# Altium footprint library XSUB_COMP.PcbLib: 8 footprints
Each footprint in its own frame and in the unit in brackets; x right, y up, seen from the top. Pads: shape width x height; smd on the part's side, far side on the other; paste and mask are expansions set on the pad; w line width, h text height; cw(c..) or ccw(c..) is an arc to the next point about the centre after c.
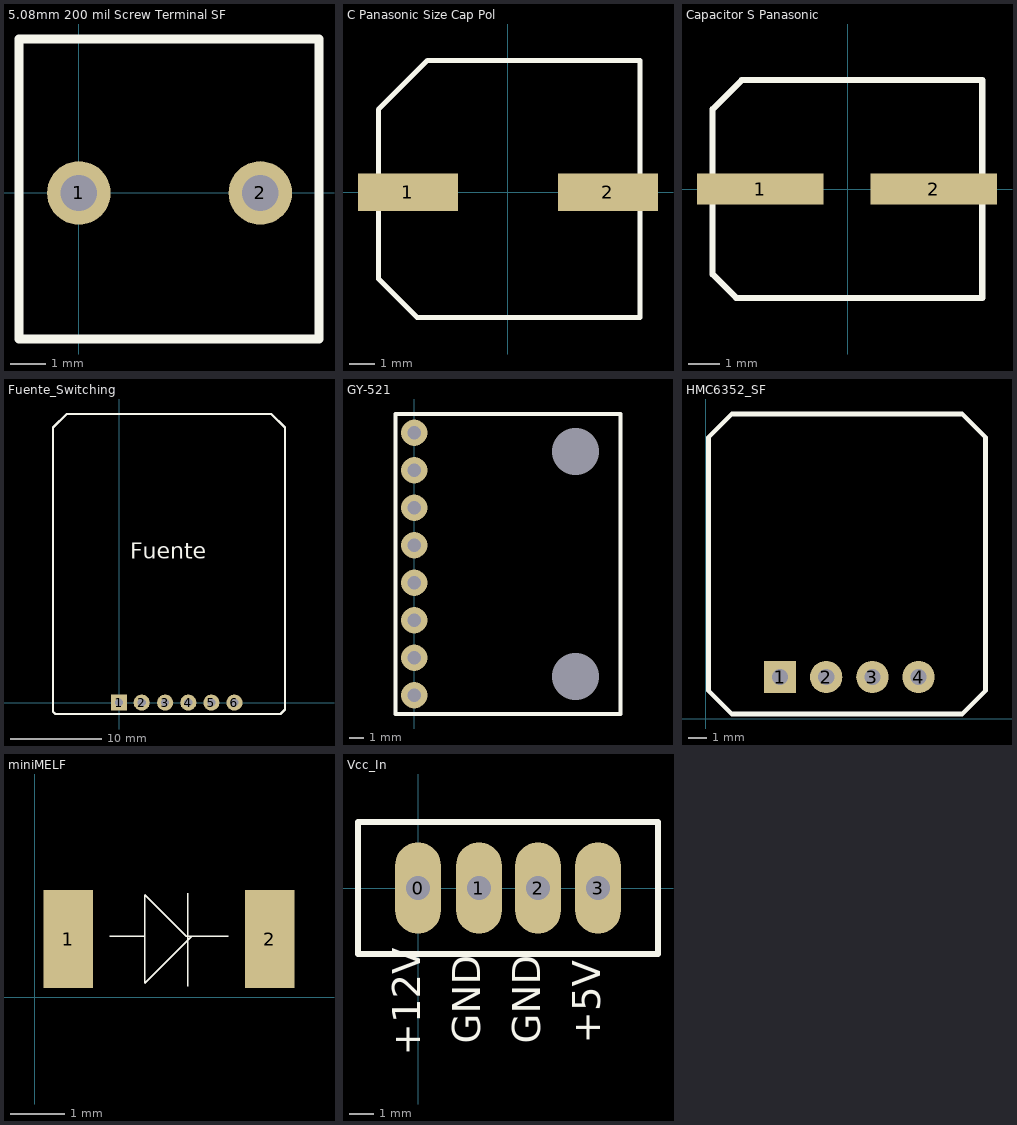
[diagram p0: the footprints below, top view; thin cyan lines are the x and y axes]

## 5.08mm 200 mil Screw Terminal SF [mil]
pads (2):
  round 70 hole 40: 1(0,0) 2(200,0)
Top Overlay:
  lines w10: -66,-161 264.71,-161 264.71,169.71 -66,169.71 -66,-161

## C Panasonic Size Cap Pol [mm]
pads (2):
  rect 4x1.5 smd: 1(-4,0) 2(4,0)
Top Overlay:
  lines w0.2: -5.182,-3.454 -3.632,-5.004 5.283,-5.004 5.283,5.283 -3.226,5.283 -5.182,3.327 -5.182,-3.454
3D body: height 12.7, standoff 0, extent -5.093,-5.093 5.207,5.207

## Capacitor S Panasonic [mil]
pads (2):
  rect 160x39.37 smd: 1(-110.74,0) 2(108.74,0)
Top Overlay:
  lines w7.87: -171,-108 -171,-16.75 -171,101 -134.2,137.8 170,137.8 170,-137.8 -141.2,-137.8 -171,-108
3D body: height 275.59, standoff 0, extent -168.77,-164.39 158,162.39

## Fuente_Switching [mil]
pads (6):
  rect 70x70 hole 35: 1(0,0)
  round 70 hole 35: 2(98.43,0) 3(200,0) 4(300,0) 5(400,0) 6(500,0)
Top Layer:
  text "+12V" at 19.68,147.64 h78.74
  text "GND" at 118.11,147.64 h78.74
  text "GND" at 314.96,147.64 h78.74
  text "GND" at 521.65,157.48 h78.74
  text "+3.3V" at 216.54,147.64 h78.74
  text "+5V" at 413.39,147.64 h78.74
Top Overlay:
  lines w10: -285.43,1161.42 -285.43,1190.94 ; -236.22,1240.16 -285.43,1190.94 ; -285.43,1190.94 -226.38,1250 639.76,1250 659.45,1250 718.5,1190.94 718.5,-29.53 698.82,-49.21 -275.59,-49.21 -285.43,-39.37 -285.43,1190.94
  text "Fuente" at 49.21,600.39 h118.11
3D body: height 59.06, standoff 19.68, extent -289,-53 719,1248

## GY-521 [mil]
pads (10):
  round 60 hole 125: SCREW1(430,800) SCREW2(430,200)
  round 70 hole 35: ""(0,150) ""(0,250) ""(0,350) ""(0,450) ""(0,550) ""(0,650) ""(0,750) ""(0,850)
Top Overlay:
  lines w10: -50,100 -50,900 550,900 550,100 -50,100

## HMC6352_SF [mil]
pads (4):
  rect 70x70 hole 35: 1(161,90)
  round 70 hole 35: 2(261,90) 3(361,90) 4(461,90)
Top Overlay:
  lines w10: 6,60 6,610 56,660 556,660 606,610 606,60 556,10 56,10 6,60

## miniMELF [mil]
pads (2):
  rect 35.43x70.87 all layers, no hole: 1(24,42) 2(169,42)
Top Overlay:
  lines w1: 54,44 79,44 ; 110,8 110,75 ; 139,44 109,44 ; 109,44 79,74 79,10 113,44 109,44

## Vcc_In [mil]
pads (4):
  oval 75x150 hole 40: 0(0,0) 1(100,0) 2(196.85,0) 3(295.28,0)
Top Overlay:
  lines w10: -98.43,-108.27 393.7,-108.27 393.7,108.27 -98.43,108.27 -98.43,-108.27
  text "GND" at 216.54,-255.91 h78.74
  text "GND" at 118.11,-255.91 h78.74
  text "+12V" at 19.68,-275.59 h78.74
  text "+5V" at 314.96,-255.91 h78.74